# EAGLE library part TLV2762 (library m_ic-signal)
Micropower Rail-To-Rail Input/Output Operational Amplifier Features Low Supply Voltage 1.8V to 3.6V Very Low Supply Current . . . 20 ?A (per channel) Ultralow Power Shut-Down Mode ? IDD(SHDN) = 10 nA/Channel CMOS Rail-to-Rail Input/Output Input Common-Mode Voltage Range ... ?0.2VtoVDD+0.2V Input Offset Voltage . . . 550 ?V Wide Bandwidth . . . 500 kHz Slew Rate . . . 0.20 V/?s Specified Temperature Range: 0°C to 70°C . . . Commercial Grade ?40°C to 85°C . . . Industrial Grade Ultrasmall Packaging 5 or 6 Pin SOT-23 (TLV2760/1) 8 or 10 Pin MSOP (TLV2762/3) Universal Op-Amp EVM Description The TLV276x single supply operational amplifiers provide 500 kHz bandwidth from only 20 ?A while operating down to 1.8 V over the industrial temperature range. The maximum recommended supply voltage is 3.6 V, which allows the devices to be operated from (1.8 V supplies down to 0.9 V) two AA or AAA cells. The devices have been characterized at 1.8 V (end of life of 2 AA(A) cells) and at 2.4 V (nominal voltage of 2 NiCd/NiMH cells). The TLV276x have rail-to-rail input and output capability which is a necessity at 1.8 V. The low supply current is coupled with extremely low input bias currents enabling them to be used with mega-ohm resistors. Low shutdown current of only 10 nA make these devices ideal for low frequency measurement applications desiring long active battery life. All members are available in PDIP and SOIC with the singles in the small SOT-23 package, duals in the MSOP, and quads in the TSSOP package.
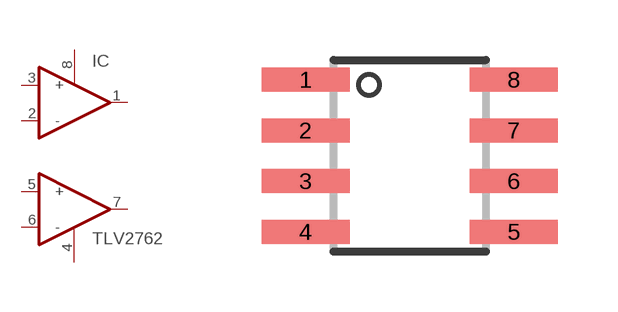
[diagram p5: symbol with the pads of SO08; footprint SO08]

Designator prefix IC

## TLV2762CD (PARTNUM: TLV2762XXX)  [SO08]
1  OUT
2  -
3  +
4  GND
5  +
6  -
7  OUT
8  VDD

## Footprint SO08 (pad centres in mm)
Small Outline Package 8 NS Package M08A
smd 2.2 x 0.6: 1 -2.604,1.905; 2 -2.604,0.635; 3 -2.604,-0.635; 4 -2.604,-1.905; 5 2.604,-1.905; 6 2.604,-0.635; 7 2.604,0.635; 8 2.604,1.905